# EAGLE library part AS07-M1101S (library RemoteSwitchComponents)
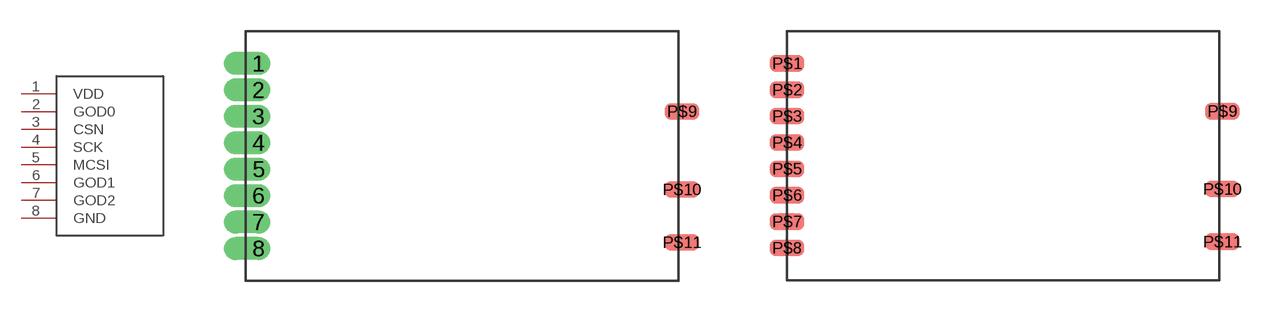
[diagram p1: symbol with the pads of AS07-M1101S; footprints AS07-M1101S, AS07-M1101S-SMD]

Designator prefix -

## AS07-M1101S  [AS07-M1101S]
1  VDD
2  GOD0
3  CSN
4  SCK
5  MCSI
6  GOD1
7  GOD2
8  GND

## AS07-M1101SSMD  [AS07-M1101S-SMD]
P$1  VDD
P$2  GOD0
P$3  CSN
P$4  SCK
P$5  MCSI
P$6  GOD1
P$7  GOD2
P$8  GND

## Footprint AS07-M1101S (pad centres in mm)
drill 0.6 pad 0.85 offset: 1 -9.525,4.09; 2 -9.525,2.82; 3 -9.525,1.55; 4 -9.525,0.28; 5 -9.525,-0.99; 6 -9.525,-2.26; 7 -9.525,-3.53; 8 -9.525,-4.8
smd 1.676 x 0.813: P$9 10.795,1.79; P$10 10.795,-1.96; P$11 10.795,-4.5

## Footprint AS07-M1101S-SMD (pad centres in mm)
smd 1.676 x 0.813: P$1 -10.16,4.09; P$2 -10.16,2.82; P$3 -10.16,1.55; P$4 -10.16,0.28; P$5 -10.16,-0.99; P$6 -10.16,-2.26; P$7 -10.16,-3.53; P$8 -10.16,-4.8; P$9 10.795,1.79; P$10 10.795,-1.96; P$11 10.795,-4.5